# EAGLE library part FT232RL-TUBE (library MouserUseful)
USB Interface IC FT232R Single Ch Full Speed Source: Datasheet <http://www.ftdichip.com/Support/Documents/DataSheets/ICs/DS_FT232R.pdf>
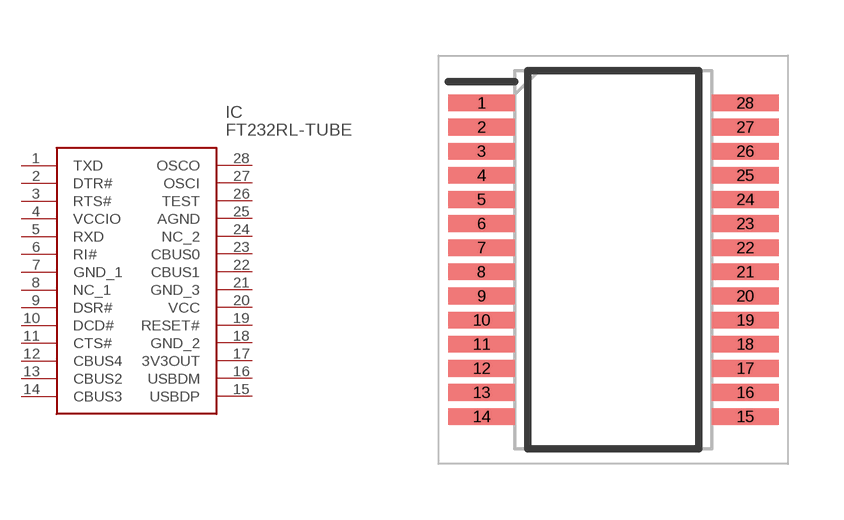
[diagram p4: symbol with the pads of SOP65P780X200-28N; footprint SOP65P780X200-28N]

Designator prefix IC

## FT232RL-TUBE (DESCRIPTION: USB Interface IC FT232R Single Ch Full Speed; HEIGHT: 2mm; MANUFACTURER_NAME: FTDI Chip; MANUFACTURER_PART_NUMBER: FT232RL-TUBE; MOUSER_PART_NUMBER: 895-FT232RL-TUBE; MOUSER_PRICE-STOCK: https://www.mouser.co.uk/ProductDetail/FTDI/FT232RL-TUBE?qs=D1%2FPMqvA100UF95YMvGN8w%3D%3D)  [SOP65P780X200-28N]
1  TXD
2  DTR#
3  RTS#
4  VCCIO
5  RXD
6  RI#
7  GND_1
8  NC_1
9  DSR#
10  DCD#
11  CTS#
12  CBUS4
13  CBUS2
14  CBUS3
15  USBDP
16  USBDM
17  3V3OUT
18  GND_2
19  RESET#
20  VCC
21  GND_3
22  CBUS1
23  CBUS0
24  NC_2
25  AGND
26  TEST
27  OSCI
28  OSCO

## Footprint SOP65P780X200-28N (pad centres in mm)
SSOP-28 _2
smd 1.8 x 0.45: 1 -3.55,4.225; 2 -3.55,3.575; 3 -3.55,2.925; 4 -3.55,2.275; 5 -3.55,1.625; 6 -3.55,0.975; 7 -3.55,0.325; 8 -3.55,-0.325; 9 -3.55,-0.975; 10 -3.55,-1.625; 11 -3.55,-2.275; 12 -3.55,-2.925; 13 -3.55,-3.575; 14 -3.55,-4.225; 15 3.55,-4.225; 16 3.55,-3.575; 17 3.55,-2.925; 18 3.55,-2.275; 19 3.55,-1.625; 20 3.55,-0.975; 21 3.55,-0.325; 22 3.55,0.325; 23 3.55,0.975; 24 3.55,1.625; 25 3.55,2.275; 26 3.55,2.925; 27 3.55,3.575; 28 3.55,4.225